# Altium schematic symbol library WE-UOST.SchLib: 8 symbols
Pins are listed as number, name and electrical type; pins without a type are passive.

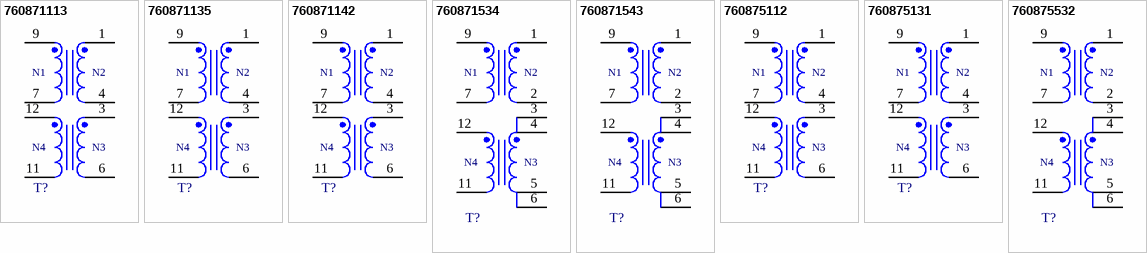
[diagram p0: symbols 760871113 to 760875532]

## 760871113
designator T?, comment 85-265Vin, 5 / 5Vout  (value not drawn)
WE-UOST Universal Offline Standard Transformer, SMT, EE16/8/5, Ui = 85-265VAC, Uo1 = 5V / 1.25A, Uo2 = 5V / 1.25A, Uaux = 14V; Manufacturer Part Number: 760871113; Manufacturer: Wurth Elektronik; DC Resistance 1: 3000mOhm; DC Resistance 2: 25mOhm; DC Resistance 4: 450mOhm; Inductance: 1310uH; Leakage Inductance: 40uH; Saturation Current: 0.8A; Switching Frequency: 60-150kHz; Turns Ratio: 140:6:6:16; Category: Transformers For AC-DC Converter; Match Code: WE-UOST; ComponentLink1Description: Website Link; ComponentLink1URL: https://www.we-online.com/redexpert/article/760871113?ad; ComponentLink2Description: Datasheet Link; ComponentLink2URL: https://www.we-online.com/redexpert/spec/760871113?ad; Mount: Surface Mount; Operating Temperature Max: 125°C; Operating Temperature Min: -40°C; Packaging: Tape and Reel; Case/Size Code: EE16/8/5; Length: 20.6mm; Width: 16.6mm; Height: 13.5mm; Auxiliary Voltage: 14V; DC Resistance 3: 25mOhm; Input Voltage: 85-265VAC; Output Current 1: 1.25A; Output Current 2: 1.25A; Output Voltage 1: 5V; Output Voltage 2: 5V
footprint WE-UOST_EE16/8/5
simulation model 760871113
pins: 1, 3, 4, 6, 7, 9, 11, 12
text: N1; N2; N4; N3

## 760871135
designator T?, comment 85-265Vin, 12 / 12Vout  (value not drawn)
WE-UOST Universal Offline Standard Transformer, SMT, EE16/8/5, Ui = 85-265VAC, Uo1 = 12V / 0.55A, Uo2 = 12V / 0.55A, Uaux = 14V; Manufacturer Part Number: 760871135; Manufacturer: Wurth Elektronik; DC Resistance 1: 2920mOhm; DC Resistance 2: 92mOhm; DC Resistance 4: 400mOhm; Inductance: 1250uH; Leakage Inductance: 53uH; Saturation Current: 0.8A; Switching Frequency: 60-150kHz; Turns Ratio: 136:13:13:15; Category: Transformers For AC-DC Converter; Match Code: WE-UOST; ComponentLink1Description: Website Link; ComponentLink1URL: https://www.we-online.com/redexpert/article/760871135?ad; ComponentLink2Description: Datasheet Link; ComponentLink2URL: https://www.we-online.com/redexpert/spec/760871135?ad; Mount: Surface Mount; Operating Temperature Max: 125°C; Operating Temperature Min: -40°C; Packaging: Tape and Reel; Case/Size Code: EE16/8/5; Length: 20.6mm; Width: 16.6mm; Height: 13.5mm; Auxiliary Voltage: 14V; DC Resistance 3: 92mOhm; Input Voltage: 85-265VAC; Output Current 1: 0.55A; Output Current 2: 0.55A; Output Voltage 1: 12V; Output Voltage 2: 12V
footprint WE-UOST_EE16/8/5
simulation model 760871135
pins: 1, 3, 4, 6, 7, 9, 11, 12
text: N1; N2; N4; N3

## 760871142
designator T?, comment 85-265Vin, 24 / 24Vout  (value not drawn)
WE-UOST Universal Offline Standard Transformer, SMT, EE16/8/5, Ui = 85-265VAC, Uo1 = 24V / 0.28A, Uo2 = 24V / 0.28A, Uaux = 14V; Manufacturer Part Number: 760871142; Manufacturer: Wurth Elektronik; DC Resistance 1: 3000mOhm; DC Resistance 2: 620mOhm; DC Resistance 4: 450mOhm; Inductance: 1250uH; Leakage Inductance: 40uH; Saturation Current: 0.8A; Switching Frequency: 60-150kHz; Turns Ratio: 140:27:27:16; Category: Transformers For AC-DC Converter; Match Code: WE-UOST; ComponentLink1Description: Website Link; ComponentLink1URL: https://www.we-online.com/redexpert/article/760871142?ad; ComponentLink2Description: Datasheet Link; ComponentLink2URL: https://www.we-online.com/redexpert/spec/760871142?ad; Mount: Surface Mount; Operating Temperature Max: 125°C; Operating Temperature Min: -40°C; Packaging: Tape and Reel; Case/Size Code: EE16/8/5; Length: 20.6mm; Width: 16.6mm; Height: 13.5mm; Auxiliary Voltage: 14V; DC Resistance 3: 620mOhm; Input Voltage: 85-265VAC; Output Current 1: 0.28A; Output Current 2: 0.28A; Output Voltage 1: 24V; Output Voltage 2: 24V
footprint WE-UOST_EE16/8/5
simulation model 760871142
pins: 1, 3, 4, 6, 7, 9, 11, 12
text: N1; N2; N4; N3

## 760871534
designator T?, comment 85-265Vin, 12 / 5Vout  (value not drawn)
WE-UOST Universal Offline Standard Transformer, SMT, EE16/8/5, Ui = 85-265VAC, Uo1 = 12V / 0.55A, Uo2 = 5V / 1.25A, Uaux = 14V; Manufacturer Part Number: 760871534; Manufacturer: Wurth Elektronik; DC Resistance 1: 3000mOhm; DC Resistance 2: 190mOhm; DC Resistance 3: 30mOhm; DC Resistance 4: 400mOhm; Inductance: 1250uH; Leakage Inductance: 35uH; Saturation Current: 0.8A; Switching Frequency: 60-150kHz; Turns Ratio: 140:9:7:18; Category: Transformers For AC-DC Converter; Match Code: WE-UOST; ComponentLink1Description: Website Link; ComponentLink1URL: https://www.we-online.com/redexpert/article/760871534?ad; ComponentLink2Description: Datasheet Link; ComponentLink2URL: https://www.we-online.com/redexpert/spec/760871534?ad; Mount: Surface Mount; Operating Temperature Max: 125°C; Operating Temperature Min: -40°C; Packaging: Tape and Reel; Case/Size Code: EE16/8/5; Length: 20.6mm; Width: 16.6mm; Height: 13.5mm; Auxiliary Voltage: 14V; Input Voltage: 85-265VAC; Output Current 1: 0.55A; Output Current 2: 1.25A; Output Voltage 1: 12V; Output Voltage 2: 5V
footprint WE-UOST_EE16/8/5
simulation model 760871534
pins: 1, 2, 3, 4, 5, 6, 7, 9, 11, 12
text: N1; N2; N4; N3

## 760871543
designator T?, comment 85-265Vin, 24 / 5Vout  (value not drawn)
WE-UOST Universal Offline Standard Transformer, SMT, EE16/8/5, Ui = 85-265VAC, Uo1 = 24V / 0.3A, Uo2 = 5V / 1.15A, Uaux = 14V; Manufacturer Part Number: 760871543; Manufacturer: Wurth Elektronik; DC Resistance 1: 3000mOhm; DC Resistance 2: 450mOhm; DC Resistance 3: 25mOhm; DC Resistance 4: 400mOhm; Inductance: 1310uH; Leakage Inductance: 35uH; Saturation Current: 0.8A; Switching Frequency: 60-150kHz; Turns Ratio: 140:22:6:16; Category: Transformers For AC-DC Converter; Match Code: WE-UOST; ComponentLink1Description: Website Link; ComponentLink1URL: https://www.we-online.com/redexpert/article/760871543?ad; ComponentLink2Description: Datasheet Link; ComponentLink2URL: https://www.we-online.com/redexpert/spec/760871543?ad; Mount: Surface Mount; Operating Temperature Max: 125°C; Operating Temperature Min: -40°C; Packaging: Tape and Reel; Case/Size Code: EE16/8/5; Length: 20.6mm; Width: 16.6mm; Height: 13.5mm; Auxiliary Voltage: 14V; Input Voltage: 85-265VAC; Output Current 1: 0.3A; Output Current 2: 1.15A; Output Voltage 1: 24V; Output Voltage 2: 5V
footprint WE-UOST_EE16/8/5
simulation model 760871543
pins: 1, 2, 3, 4, 5, 6, 7, 9, 11, 12
text: N1; N2; N4; N3

## 760875112
designator T?, comment 195-265Vin, 5 / 5Vout  (value not drawn)
WE-UOST Universal Offline Standard Transformer, SMT, EE16/8/5, Ui = 195-265VAC, Uo1 = 5V / 1.5A, Uo2 = 5V / 1.5A, Uaux = 14V; Manufacturer Part Number: 760875112; Manufacturer: Wurth Elektronik; DC Resistance 1: 4200mOhm; DC Resistance 2: 33.5mOhm; DC Resistance 4: 400mOhm; Inductance: 1500uH; Leakage Inductance: 50uH; Saturation Current: 0.8A; Switching Frequency: 60-150kHz; Turns Ratio: 160:7:7:18; Category: Transformers For AC-DC Converter; Match Code: WE-UOST; ComponentLink1Description: Website Link; ComponentLink1URL: https://www.we-online.com/redexpert/article/760875112?ad; ComponentLink2Description: Datasheet Link; ComponentLink2URL: https://www.we-online.com/redexpert/spec/760875112?ad; Mount: Surface Mount; Operating Temperature Max: 125°C; Operating Temperature Min: -40°C; Packaging: Tape and Reel; Case/Size Code: EE16/8/5; Length: 20.6mm; Width: 16.6mm; Height: 13.5mm; Auxiliary Voltage: 14V; DC Resistance 3: 33.5mOhm; Input Voltage: 195-265VAC; Output Current 1: 1.5A; Output Current 2: 1.5A; Output Voltage 1: 5V; Output Voltage 2: 5V
footprint WE-UOST_EE16/8/5
simulation model 760875112
pins: 1, 3, 4, 6, 7, 9, 11, 12
text: N1; N2; N4; N3

## 760875131
designator T?, comment 85-265Vin, 12 / 12Vout  (value not drawn)
WE-UOST Universal Offline Standard Transformer, SMT, EE16/8/5, Ui = 85-265VAC, Uo1 = 12V / 0.65A, Uo2 = 12V / 0.65A, Uaux = 14V; Manufacturer Part Number: 760875131; Manufacturer: Wurth Elektronik; DC Resistance 1: 4200mOhm; DC Resistance 2: 140mOhm; DC Resistance 4: 450mOhm; Inductance: 1500uH; Leakage Inductance: 60uH; Saturation Current: 0.8A; Switching Frequency: 60-150kHz; Turns Ratio: 160:14:14:16; Category: Transformers For AC-DC Converter; Match Code: WE-UOST; ComponentLink1Description: Website Link; ComponentLink1URL: https://www.we-online.com/redexpert/article/760875131?ad; ComponentLink2Description: Datasheet Link; ComponentLink2URL: https://www.we-online.com/redexpert/spec/760875131?ad; Mount: Surface Mount; Operating Temperature Max: 125°C; Operating Temperature Min: -40°C; Packaging: Tape and Reel; Case/Size Code: EE16/8/5; Length: 20.6mm; Width: 16.6mm; Height: 13.5mm; Auxiliary Voltage: 14V; DC Resistance 3: 140mOhm; Input Voltage: 85-265VAC; Output Current 1: 0.65A; Output Current 2: 0.65A; Output Voltage 1: 12V; Output Voltage 2: 12V
footprint WE-UOST_EE16/8/5
simulation model 760875131
pins: 1, 3, 4, 6, 7, 9, 11, 12
text: N1; N2; N4; N3

## 760875532
designator T?, comment 195-265Vin, 12 / 5Vout  (value not drawn)
WE-UOST Universal Offline Standard Transformer, SMT, EE16/8/5, Ui = 195-265VAC, Uo1 = 12V / 0.7A, Uo2 = 5V / 1.36A, Uaux = 14V; Manufacturer Part Number: 760875532; Manufacturer: Wurth Elektronik; DC Resistance 1: 6500mOhm; DC Resistance 2: 86mOhm; DC Resistance 3: 24mOhm; DC Resistance 4: 370mOhm; Inductance: 1500uH; Leakage Inductance: 60uH; Saturation Current: 0.8A; Switching Frequency: 60-150kHz; Turns Ratio: 160:10:7:16; Category: Transformers For AC-DC Converter; Match Code: WE-UOST; ComponentLink1Description: Website Link; ComponentLink1URL: https://www.we-online.com/redexpert/article/760875532?ad; ComponentLink2Description: Datasheet Link; ComponentLink2URL: https://www.we-online.com/redexpert/spec/760875532?ad; Mount: Surface Mount; Operating Temperature Max: 125°C; Operating Temperature Min: -40°C; Packaging: Tape and Reel; Case/Size Code: EE16/8/5; Length: 20.6mm; Width: 16.6mm; Height: 13.5mm; Auxiliary Voltage: 14V; Input Voltage: 195-265VAC; Output Current 1: 0.7A; Output Current 2: 1.36A; Output Voltage 1: 12V; Output Voltage 2: 5V
footprint WE-UOST_EE16/8/5
simulation model 760875532
pins: 1, 2, 3, 4, 5, 6, 7, 9, 11, 12
text: N1; N2; N4; N3